# EAGLE library part RPI3_SIMPLE (library 1_domaci)
Device for Raspberry Pi 3 board created by Dave Young for www.element14.com More information and support community is available at https://www.element14.com/community/community/raspberry-pi
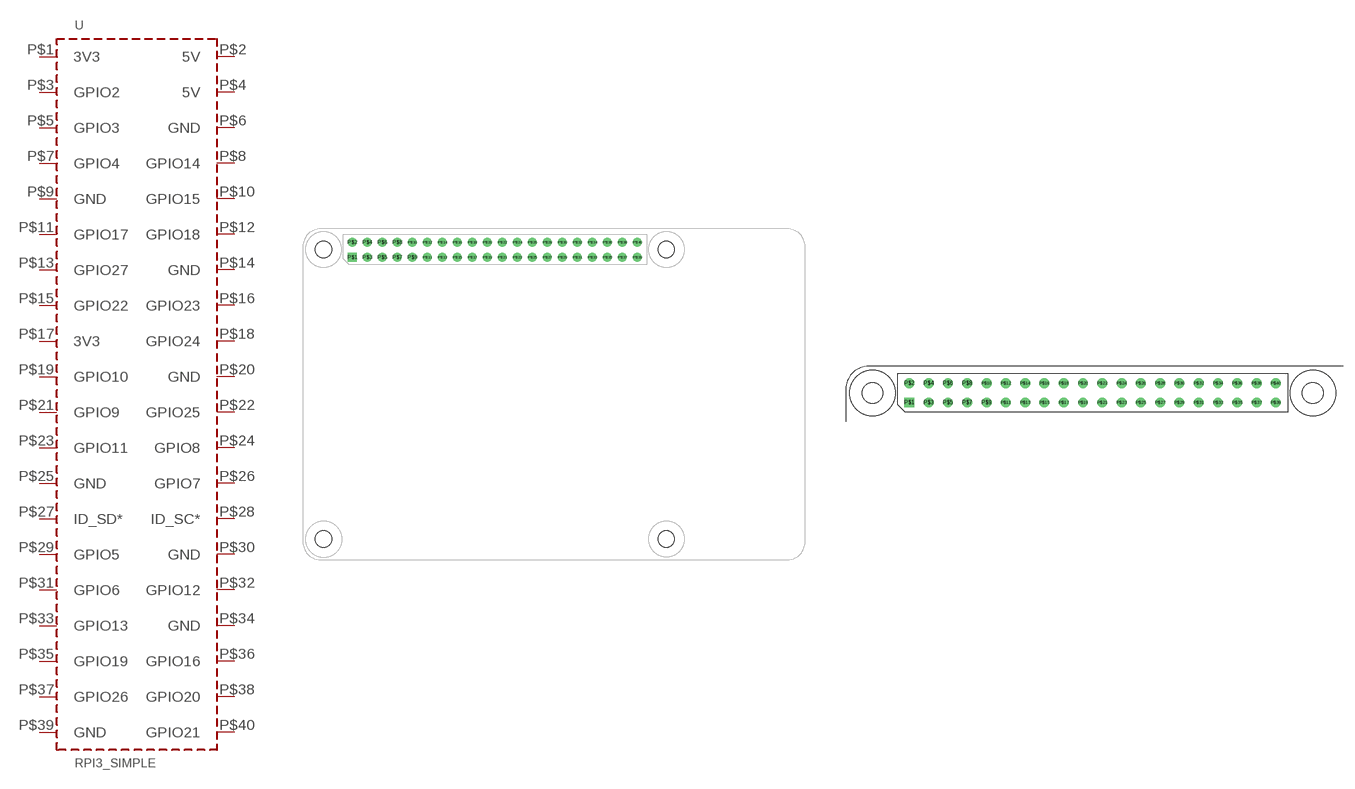
[diagram p12: symbol with the pads of RPI3; footprints RPI3, RPI3-PART]

Designator prefix U

## RPI3_SIMPLE'FULL'  [RPI3]
P$1  3V3
P$2  5V
P$3  GPIO2
P$4  5V
P$5  GPIO3
P$6  GND
P$7  GPIO4
P$8  GPIO14
P$9  GND
P$10  GPIO15
P$11  GPIO17
P$12  GPIO18
P$13  GPIO27
P$14  GND
P$15  GPIO22
P$16  GPIO23
P$17  3V3
P$18  GPIO24
P$19  GPIO10
P$20  GND
P$21  GPIO9
P$22  GPIO25
P$23  GPIO11
P$24  GPIO8
P$25  GND
P$26  GPIO7
P$27  ID_SD*
P$28  ID_SC*
P$29  GPIO5
P$30  GND
P$31  GPIO6
P$32  GPIO12
P$33  GPIO13
P$34  GND
P$35  GPIO19
P$36  GPIO16
P$37  GPIO26
P$38  GPIO20
P$39  GND
P$40  GPIO21

## RPI3_SIMPLE'PART'  [RPI3-PART]
Pads as for RPI3

## Footprint RPI3 (pad centres in mm)
Package for the Raspberry Pi 3 board created by Dave Young for www.elemenet14.com based on documented dimensions and board measurements. For more documentation, please visit http://www.raspberrypi.org/documentation/hardware/raspberrypi/
drill 1.016 square: P$1 8.522,51.306
drill 1.016: P$2 8.509,53.848; P$3 11.049,51.308; P$4 11.049,53.848; P$5 13.589,51.308; P$6 13.589,53.848; P$7 16.129,51.308; P$8 16.129,53.848; P$9 18.669,51.308; P$10 18.669,53.848; P$11 21.209,51.308; P$12 21.209,53.848; P$13 23.749,51.308; P$14 23.749,53.848; P$15 26.289,51.308; P$16 26.289,53.848; P$17 28.829,51.308; P$18 28.829,53.848; P$19 31.369,51.308; P$20 31.369,53.848; P$21 33.909,51.308; P$22 33.909,53.848; P$23 36.449,51.308; P$24 36.449,53.848; P$25 38.989,51.308; P$26 38.989,53.848; P$27 41.529,51.308; P$28 41.529,53.848; P$29 44.069,51.308; P$30 44.069,53.848; P$31 46.609,51.308; P$32 46.609,53.848; P$33 49.149,51.308; P$34 49.149,53.848; P$35 51.689,51.308; P$36 51.689,53.848; P$37 54.229,51.308; P$38 54.229,53.848; P$39 56.769,51.308; P$40 56.769,53.848
hole 2.75 at 3.652,3.576
hole 2.75 at 61.652,3.576
hole 2.75 at 3.652,52.576
hole 2.75 at 61.652,52.576

## Footprint RPI3-PART (pad centres in mm)
drill 0.8 square: P$1 -24.13,-1.27
drill 0.8: P$2 -24.13,1.27; P$3 -21.59,-1.27; P$4 -21.59,1.27; P$5 -19.05,-1.27; P$6 -19.05,1.27; P$7 -16.51,-1.27; P$8 -16.51,1.27; P$9 -13.97,-1.27; P$10 -13.97,1.27; P$11 -11.43,-1.27; P$12 -11.43,1.27; P$13 -8.89,-1.27; P$14 -8.89,1.27; P$15 -6.35,-1.27; P$16 -6.35,1.27; P$17 -3.81,-1.27; P$18 -3.81,1.27; P$19 -1.27,-1.27; P$20 -1.27,1.27; P$21 1.27,-1.27; P$22 1.27,1.27; P$23 3.81,-1.27; P$24 3.81,1.27; P$25 6.35,-1.27; P$26 6.35,1.27; P$27 8.89,-1.27; P$28 8.89,1.27; P$29 11.43,-1.27; P$30 11.43,1.27; P$31 13.97,-1.27; P$32 13.97,1.27; P$33 16.51,-1.27; P$34 16.51,1.27; P$35 19.05,-1.27; P$36 19.05,1.27; P$37 21.59,-1.27; P$38 21.59,1.27; P$39 24.13,-1.27; P$40 24.13,1.27
hole 2.75 at -28.999,-0.013
hole 2.75 at 29.001,-0.013